# EAGLE library part ST2221C (library st2221x)
ST2221C 16-Bit Constant Current LED Drivers
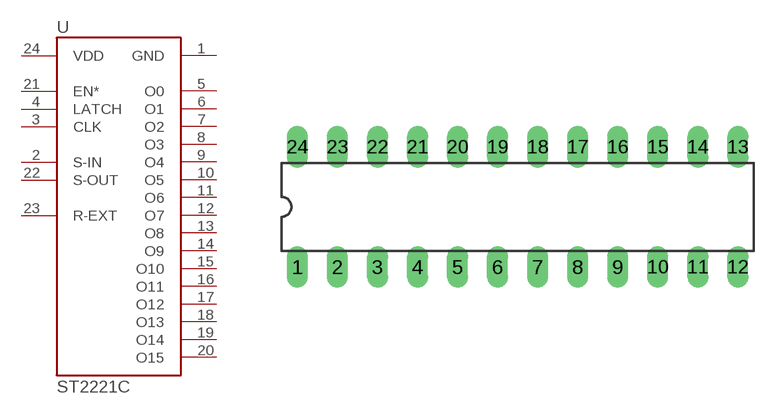
[diagram p1: symbol with the pads of PDIP24; footprint PDIP24]

Designator prefix -

## ST2221C  [PDIP24]
1  GND
2  S-IN
3  CLK
4  LATCH
5  O0
6  O1
7  O2
8  O3
9  O4
10  O5
11  O6
12  O7
13  O8
14  O9
15  O10
16  O11
17  O12
18  O13
19  O14
20  O15
21  EN*
22  S-OUT
23  R-EXT
24  VDD

## Footprint PDIP24 (pad centres in mm)
Dual inline package
drill 0.813 long: 1 2.54,1.27; 2 5.08,1.27; 3 7.62,1.27; 4 10.16,1.27; 5 12.7,1.27; 6 15.24,1.27; 7 17.78,1.27; 8 20.32,1.27; 9 22.86,1.27; 10 25.4,1.27; 11 27.94,1.27; 12 30.48,1.27; 13 30.48,8.89; 14 27.94,8.89; 15 25.4,8.89; 16 22.86,8.89; 17 20.32,8.89; 18 17.78,8.89; 19 15.24,8.89; 20 12.7,8.89; 21 10.16,8.89; 22 7.62,8.89; 23 5.08,8.89; 24 2.54,8.89